# Altium footprint library Embedded.PcbLib: 8 footprints
Each footprint in its own frame and in the unit in brackets; x right, y up, seen from the top. Pads: shape width x height; smd on the part's side, far side on the other; paste and mask are expansions set on the pad; w line width, h text height; cw(c..) or ccw(c..) is an arc to the next point about the centre after c.
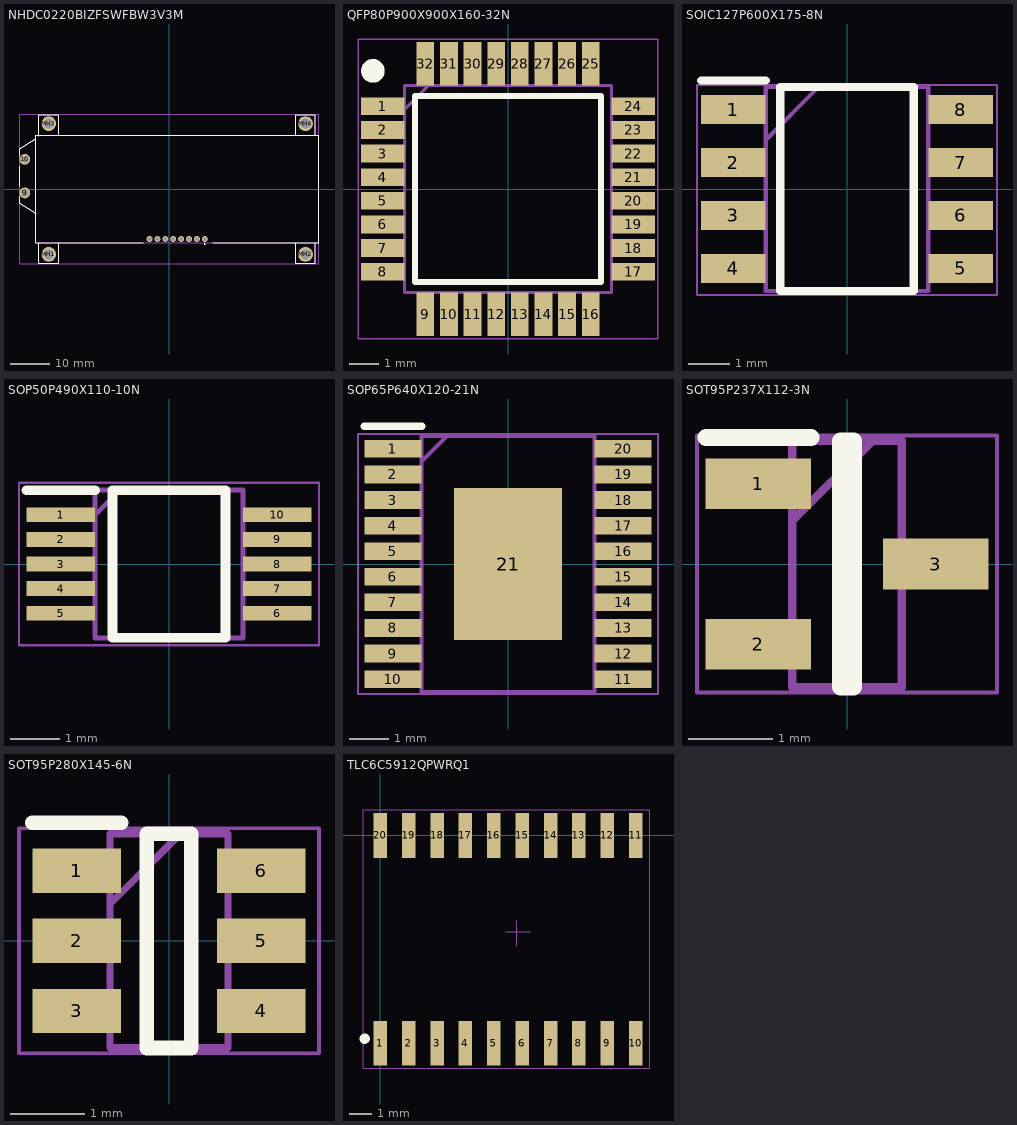
[diagram p0: the footprints below, top view; thin cyan lines are the x and y axes]

## NHDC0220BIZFSWFBW3V3M [mm]
pads (14):
  round 1.524 hole 0.98: 1(9.058,-12.65) 2(7.058,-12.65) 3(5.058,-12.65) 4(3.058,-12.65) 5(1.058,-12.65) 6(-0.942,-12.65) 7(-2.942,-12.65) 8(-4.942,-12.65)
  round 2.73 hole 1.82: 9(-36.492,-1) 10(-36.492,7.5)
  round 3.75 hole 2.5: MH1(-30.442,-16.55) MH2(34.558,-16.55) MH3(-30.442,16.55) MH4(34.558,16.55)
Top Overlay:
  lines w0.1: -37.843,-1.83 -37.843,-3.66 -33.742,-6.2 ; -37.843,0.71 -37.843,5.79 ; -37.843,8.33 -37.843,10.16 -33.742,12.7 ; -32.942,-13.55 -32.942,-18.8 -27.942,-18.8 -27.942,-13.55 ; -32.942,13.41 -32.942,18.8 -27.942,18.8 -27.942,13.55 ; -6.516,-13.55 -33.742,-13.55 -33.742,13.55 37.858,13.55 37.858,-13.55 11.088,-13.55 ; 32.058,-13.55 32.058,-18.8 37.058,-18.8 37.058,-13.55 ; 32.058,13.55 32.058,18.8 37.058,18.8 37.058,13.55
  lines w0.2: 8.958,-13.95 ccw(c9.058,-13.95) 9.158,-13.95 ccw(c9.058,-13.95) 8.958,-13.95
Mechanical 13:
  lines w0.2: -33.742,-6.2 -37.843,-3.66 -37.843,10.16 -33.742,12.7 ; -32.942,-13.55 -32.942,-18.8 -27.942,-18.8 -27.942,-13.55 ; -32.942,13.55 -32.942,18.8 -27.942,18.8 -27.942,13.55 ; 32.058,-13.55 32.058,-18.8 37.058,-18.8 37.058,-13.55 ; 32.058,13.55 32.058,18.8 37.058,18.8 37.058,13.55 ; -33.742,-13.55 -33.742,13.55 37.858,13.55 37.858,-13.55 -33.742,-13.55
Mechanical 15:
  lines w0.1: -37.973,-18.923 -37.973,18.923 37.973,18.923 37.973,-18.923 -37.973,-18.923
3D body "NHD-C0220BiZ-FSW-FBW-3V3M.STEP": height 6.8, standoff -4.2, extent -37.927,-18.923 37.673,18.677

## QFP80P900X900X160-32N [mm]
pads (32):
  rect 1.475x0.6 smd: 1(-4.238,2.8) 2(-4.238,2) 3(-4.238,1.2) 4(-4.238,0.4) 5(-4.238,-0.4) 6(-4.238,-1.2) 7(-4.238,-2) 8(-4.238,-2.8) 17(4.238,-2.8) 18(4.238,-2) 19(4.238,-1.2) 20(4.238,-0.4) 21(4.238,0.4) 22(4.238,1.2) 23(4.238,2) 24(4.238,2.8)
  rect 0.6x1.475 smd: 9(-2.8,-4.238) 10(-2,-4.238) 11(-1.2,-4.238) 12(-0.4,-4.238) 13(0.4,-4.238) 14(1.2,-4.238) 15(2,-4.238) 16(2.8,-4.238) 25(2.8,4.238) 26(2,4.238) 27(1.2,4.238) 28(0.4,4.238) 29(-0.4,4.238) 30(-1.2,4.238) 31(-2,4.238) 32(-2.8,4.238)
Top Overlay:
  circle w0.4: c-4.575,4 r0.2
  lines w0.2: -3.15,-3.15 -3.15,3.15 3.15,3.15 3.15,-3.15 -3.15,-3.15
Mechanical 13:
  lines w0.1: -3.5,2.7 -2.7,3.5 ; -3.5,-3.5 -3.5,3.5 3.5,3.5 3.5,-3.5 -3.5,-3.5
Mechanical 15:
  lines w0.05: -5.08,-5.08 -5.08,5.08 5.08,5.08 5.08,-5.08 -5.08,-5.08
3D body "STM32F042K4T6.stp": height 1.6, standoff 0, extent -4.5,-4.5 4.5,4.5

## SOIC127P600X175-8N [mm]
pads (8):
  rect 1.55x0.7 smd: 1(-2.725,1.905) 2(-2.725,0.635) 3(-2.725,-0.635) 4(-2.725,-1.905) 5(2.725,-1.905) 6(2.725,-0.635) 7(2.725,0.635) 8(2.725,1.905)
Top Overlay:
  lines w0.2: -3.5,2.605 -1.95,2.605 ; -1.6,-2.45 -1.6,2.45 1.6,2.45 1.6,-2.45 -1.6,-2.45
Mechanical 13:
  lines w0.1: -1.95,1.18 -0.68,2.45 ; -1.95,-2.45 -1.95,2.45 1.95,2.45 1.95,-2.45 -1.95,-2.45
Mechanical 15:
  lines w0.05: -3.6,-2.54 3.6,-2.54 3.6,2.496 -3.6,2.496 -3.6,-2.54
3D body "TJA1051T.stp": height 1.75, standoff 0, extent -3,-2.45 3,2.45

## SOP50P490X110-10N [mm]
pads (10):
  rect 1.4x0.3 smd: 1(-2.2,1) 2(-2.2,0.5) 3(-2.2,0) 4(-2.2,-0.5) 5(-2.2,-1) 6(2.2,-1) 7(2.2,-0.5) 8(2.2,0) 9(2.2,0.5) 10(2.2,1)
Top Overlay:
  lines w0.2: -2.9,1.5 -1.5,1.5 ; -1.15,-1.5 -1.15,1.5 1.15,1.5 1.15,-1.5 -1.15,-1.5
Mechanical 13:
  lines w0.1: -1.5,1 -1,1.5 ; -1.5,-1.5 -1.5,1.5 1.5,1.5 1.5,-1.5 -1.5,-1.5
Mechanical 15:
  lines w0.05: -3.048,-1.651 -3.048,1.651 3.048,1.651 3.048,-1.651 -3.048,-1.651
3D body "INA2181A4IDGST.stp": height 1.1, standoff 0, extent -2.45,-1.5 2.45,1.5

## SOP65P640X120-21N [mm]
pads (21):
  rect 1.45x0.45 smd: 1(-2.925,2.925) 2(-2.925,2.275) 3(-2.925,1.625) 4(-2.925,0.975) 5(-2.925,0.325) 6(-2.925,-0.325) 7(-2.925,-0.975) 8(-2.925,-1.625) 9(-2.925,-2.275) 10(-2.925,-2.925) 11(2.925,-2.925) 12(2.925,-2.275) 13(2.925,-1.625) 14(2.925,-0.975) 15(2.925,-0.325) 16(2.925,0.325) 17(2.925,0.975) 18(2.925,1.625) 19(2.925,2.275) 20(2.925,2.925)
  rect 2.74x3.86 smd: 21(0,0)
Top Overlay:
  lines w0.2: -3.65,3.5 -2.2,3.5
Mechanical 13:
  lines w0.1: -2.2,2.6 -1.55,3.25 ; -2.2,-3.25 -2.2,3.25 2.2,3.25 2.2,-3.25 -2.2,-3.25
Mechanical 15:
  lines w0.05: -3.81,-3.302 -3.81,3.302 3.81,3.302 3.81,-3.302 -3.81,-3.302
3D body "LT3501EFE#PBF.stp": height 1.2, standoff 0, extent -3.2,-3.25 3.2,3.25

## SOT95P237X112-3N [mm]
pads (3):
  rect 1.25x0.6 smd: 1(-1.05,0.95) 2(-1.05,-0.95) 3(1.05,0)
Top Overlay:
  lines w0.2: -1.675,1.5 -0.425,1.5 ; -0.075,-1.46 -0.075,1.46 0.075,1.46 0.075,-1.46 -0.075,-1.46
Mechanical 13:
  lines w0.1: -0.65,0.51 0.3,1.46 ; -0.65,-1.46 -0.65,1.46 0.65,1.46 0.65,-1.46 -0.65,-1.46
Mechanical 15:
  lines w0.05: -1.778,-1.524 -1.778,1.524 1.778,1.524 1.778,-1.524 -1.778,-1.524
3D body "ATL432AIDBZR.stp": height 1.12, standoff 0, extent -1.185,-1.46 1.185,1.46

## SOT95P280X145-6N [mm]
pads (6):
  rect 1.2x0.6 smd: 1(-1.25,0.95) 2(-1.25,0) 3(-1.25,-0.95) 4(1.25,-0.95) 5(1.25,0) 6(1.25,0.95)
Top Overlay:
  lines w0.2: -1.85,1.6 -0.65,1.6 ; -0.3,-1.45 0.3,-1.45 0.3,1.45 -0.3,1.45 -0.3,-1.45
Mechanical 13:
  lines w0.1: -0.8,0.5 0.15,1.45 ; -0.8,-1.45 0.8,-1.45 0.8,1.45 -0.8,1.45 -0.8,-1.45
Mechanical 15:
  lines w0.05: -2.032,-1.524 2.032,-1.524 2.032,1.524 -2.032,1.524 -2.032,-1.524
3D body "LM74700QDBVRQ1.stp": height 1.45, standoff 0, extent -1.4,-1.45 1.4,1.45

## TLC6C5912QPWRQ1 [mm] "Shift Register LED Driver"
pads (20):
  rect 0.6x2 smd: 1(0,-9.3) 2(1.27,-9.3) 3(2.54,-9.3) 4(3.81,-9.3) 5(5.08,-9.3) 6(6.35,-9.3) 7(7.62,-9.3) 8(8.89,-9.3) 9(10.16,-9.3) 10(11.43,-9.3) 11(11.43,0) 12(10.16,0) 13(8.89,0) 14(7.62,0) 15(6.35,0) 16(5.08,0) 17(3.81,0) 18(2.54,0) 19(1.27,0) 20(0,0)
Top Overlay:
  circle w0.254: c-0.7,-9.1 r0.1
Mechanical 15:
  lines w0.05: 5.588,-4.318 6.731,-4.318 ; 6.096,-4.953 6.096,-3.81 ; -0.762,-10.414 -0.762,1.143 12.065,1.143 12.065,-10.414 -0.762,-10.414
3D body "DW0020A.stp": height 1.75, standoff 0, extent -0.7,-9.764 12.1,0.565